# Altium integrated library ICL7660EPA_.IntLib: 1 symbol
Pins are listed as number, name and electrical type; pins without a type are passive.

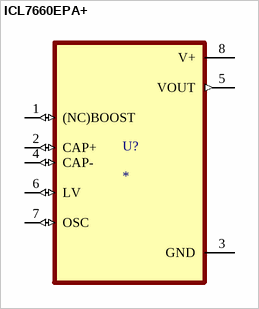
[diagram p0: symbol ICL7660EPA+]

## ICL7660EPA+
designator U?
Switched-Capacitor Voltage Converters; MF: Analog Devices; MP: ICL7660EPA+; Price: None; Purchase-URL: https://pricing.snapeda.com/search/part/ICL7660EPA+/?ref=eda; Package: PDIP-8 Maxim; Check_prices: https://www.snapeda.com/parts/ICL7660EPA+/Analog+Devices/view-part/?ref=eda; Availability: In Stock; Value: *; SnapEDA_Link: https://www.snapeda.com/parts/ICL7660EPA+/Analog+Devices/view-part/?ref=snap
footprint DIP794W47P254L991H457Q8
pins: 1 (NC)BOOST (io), 2 CAP+ (io), 3 GND (power), 4 CAP- (io), 5 VOUT (out), 6 LV (io), 7 OSC (io), 8 V+ (power)